# EAGLE library part DIY-MODULES_WIRELESS-NRF24L01-PA-EXT (library CrazyRemote)
2.4 GHz Wireless Module based on NRF24L01 chip with preamplifier and external antenna
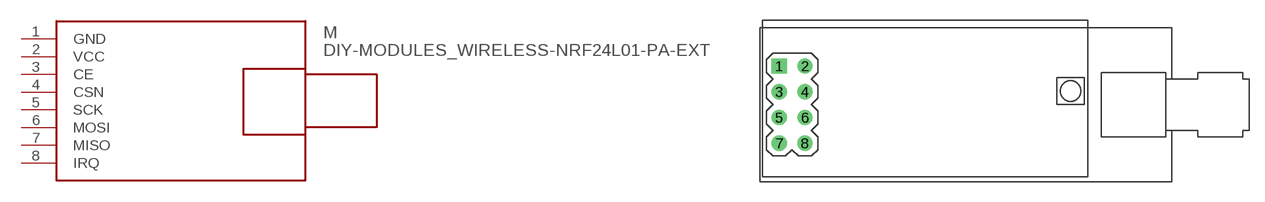
[diagram p10: symbol with the pads of DIY-MODULES_WIRELESS-NRD24L01-PA-EXT; footprint DIY-MODULES_WIRELESS-NRD24L01-PA-EXT]

Designator prefix M

## DIY-MODULES_WIRELESS-NRF24L01-PA-EXT  [DIY-MODULES_WIRELESS-NRD24L01-PA-EXT]
1  GND  pwr
2  VCC  pwr
3  CE
4  CSN
5  SCK
6  MOSI
7  MISO
8  IRQ

## Footprint DIY-MODULES_WIRELESS-NRD24L01-PA-EXT (pad centres in mm)
2.4 GHz Wireless Module based on NRF24L01 chip with preamplifier and external antenna
drill 1 square: 1 -1.27,3.81
drill 1: 2 1.27,3.81; 3 -1.27,1.27; 4 1.27,1.27; 5 -1.27,-1.27; 6 1.27,-1.27; 7 -1.27,-3.81; 8 1.27,-3.81